# EAGLE library part MEC1-150-X-X-D-RA1-SL-X (library MEC1-150-X-X-D-RA1-SL-X)
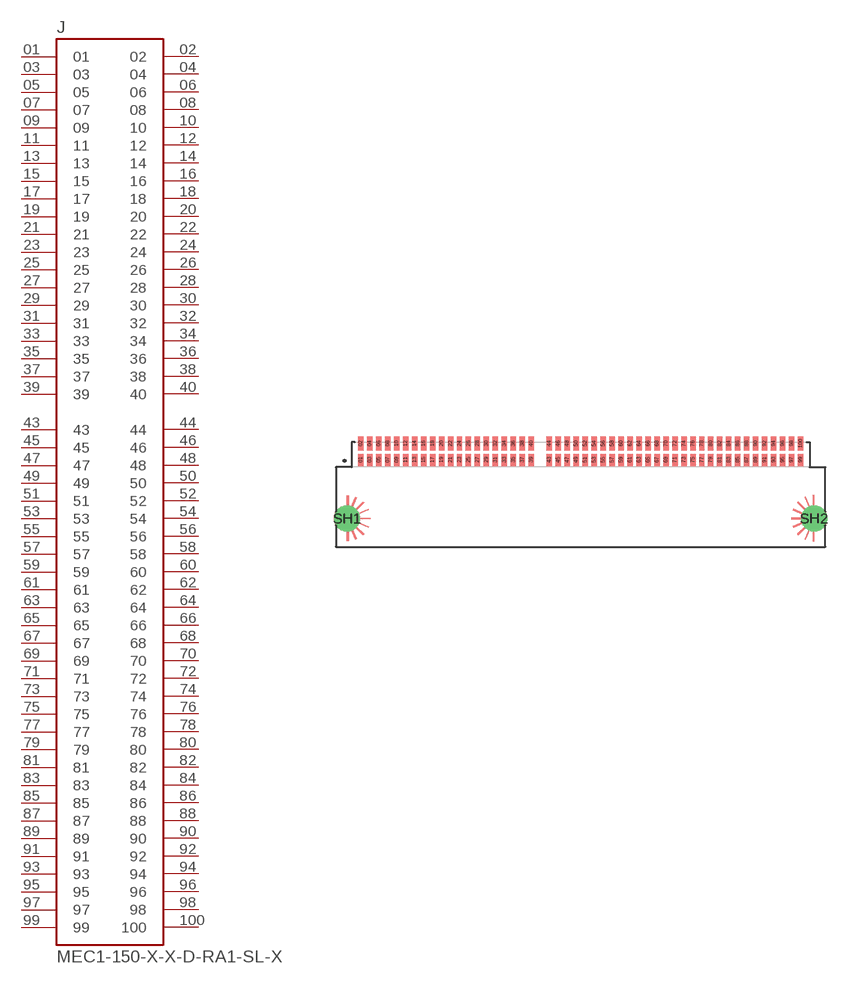
[diagram p0: symbol with the pads of SAMTEC_MEC1-150-X-X-D-RA1-SL-X; footprint SAMTEC_MEC1-150-X-X-D-RA1-SL-X]

Designator prefix J

## MEC1-150-X-X-D-RA1-SL-X (MANUFACTURER: Samtec; PARTREV: N; STANDARD: Manufacturer Recommendations)  [SAMTEC_MEC1-150-X-X-D-RA1-SL-X]
01  01  pas
02  02  pas
03  03  pas
04  04  pas
05  05  pas
06  06  pas
07  07  pas
08  08  pas
09  09  pas
10  10  pas
11  11  pas
12  12  pas
13  13  pas
14  14  pas
15  15  pas
16  16  pas
17  17  pas
18  18  pas
19  19  pas
20  20  pas
21  21  pas
22  22  pas
23  23  pas
24  24  pas
25  25  pas
26  26  pas
27  27  pas
28  28  pas
29  29  pas
30  30  pas
31  31  pas
32  32  pas
33  33  pas
34  34  pas
35  35  pas
36  36  pas
37  37  pas
38  38  pas
39  39  pas
40  40  pas
43  43  pas
44  44  pas
45  45  pas
46  46  pas
47  47  pas
48  48  pas
49  49  pas
50  50  pas
51  51  pas
52  52  pas
53  53  pas
54  54  pas
55  55  pas
56  56  pas
57  57  pas
58  58  pas
59  59  pas
60  60  pas
61  61  pas
62  62  pas
63  63  pas
64  64  pas
65  65  pas
66  66  pas
67  67  pas
68  68  pas
69  69  pas
70  70  pas
71  71  pas
72  72  pas
73  73  pas
74  74  pas
75  75  pas
76  76  pas
77  77  pas
78  78  pas
79  79  pas
80  80  pas
81  81  pas
82  82  pas
83  83  pas
84  84  pas
85  85  pas
86  86  pas
87  87  pas
88  88  pas
89  89  pas
90  90  pas
91  91  pas
92  92  pas
93  93  pas
94  94  pas
95  95  pas
96  96  pas
97  97  pas
98  98  pas
99  99  pas
100  100  pas

## Footprint SAMTEC_MEC1-150-X-X-D-RA1-SL-X (pad centres in mm)
smd 0.61 x 1.35: 01 -24.5,6.517; 03 -23.5,6.517; 05 -22.5,6.517; 07 -21.5,6.517; 09 -20.5,6.517; 11 -19.5,6.517; 13 -18.5,6.517; 15 -17.5,6.517; 17 -16.5,6.517; 19 -15.5,6.517; 21 -14.5,6.517; 23 -13.5,6.517; 25 -12.5,6.517; 27 -11.5,6.517; 29 -10.5,6.517; 31 -9.5,6.517; 33 -8.5,6.517; 35 -7.5,6.517; 37 -6.5,6.517; 39 -5.5,6.517; 43 -3.5,6.517; 45 -2.5,6.517; 47 -1.5,6.517; 49 -0.5,6.517; 51 0.5,6.517; 53 1.5,6.517; 55 2.5,6.517; 57 3.5,6.517; 59 4.5,6.517; 61 5.5,6.517; 63 6.5,6.517; 65 7.5,6.517; 67 8.5,6.517; 69 9.5,6.517; 71 10.5,6.517; 73 11.5,6.517; 75 12.5,6.517; 77 13.5,6.517; 79 14.5,6.517; 81 15.5,6.517; 83 16.5,6.517; 85 17.5,6.517; 87 18.5,6.517; 89 19.5,6.517; 91 20.5,6.517; 93 21.5,6.517; 95 22.5,6.517; 97 23.5,6.517; 99 24.5,6.517
smd 0.61 x 1.52: 02 -24.5,8.332; 04 -23.5,8.332; 06 -22.5,8.332; 08 -21.5,8.332; 10 -20.5,8.332; 12 -19.5,8.332; 14 -18.5,8.332; 16 -17.5,8.332; 18 -16.5,8.332; 20 -15.5,8.332; 22 -14.5,8.332; 24 -13.5,8.332; 26 -12.5,8.332; 28 -11.5,8.332; 30 -10.5,8.332; 32 -9.5,8.332; 34 -8.5,8.332; 36 -7.5,8.332; 38 -6.5,8.332; 40 -5.5,8.332; 44 -3.5,8.332; 46 -2.5,8.332; 48 -1.5,8.332; 50 -0.5,8.332; 52 0.5,8.332; 54 1.5,8.332; 56 2.5,8.332; 58 3.5,8.332; 60 4.5,8.332; 62 5.5,8.332; 64 6.5,8.332; 66 7.5,8.332; 68 8.5,8.332; 70 9.5,8.332; 72 10.5,8.332; 74 11.5,8.332; 76 12.5,8.332; 78 13.5,8.332; 80 14.5,8.332; 82 15.5,8.332; 84 16.5,8.332; 86 17.5,8.332; 88 18.5,8.332; 90 19.5,8.332; 92 20.5,8.332; 94 21.5,8.332; 96 22.5,8.332; 98 23.5,8.332; 100 24.5,8.332
drill 1.93 pad 2.21: SH1 -26,0; SH2 26,0